# Altium footprint library DCAV32_WINGLET_PCBLIB.PcbLib: 25 footprints (part 1 of 2)
Each footprint in its own frame and in the unit in brackets; x right, y up, seen from the top. Pads: shape width x height; smd on the part's side, far side on the other; paste and mask are expansions set on the pad; w line width, h text height; cw(c..) or ccw(c..) is an arc to the next point about the centre after c.
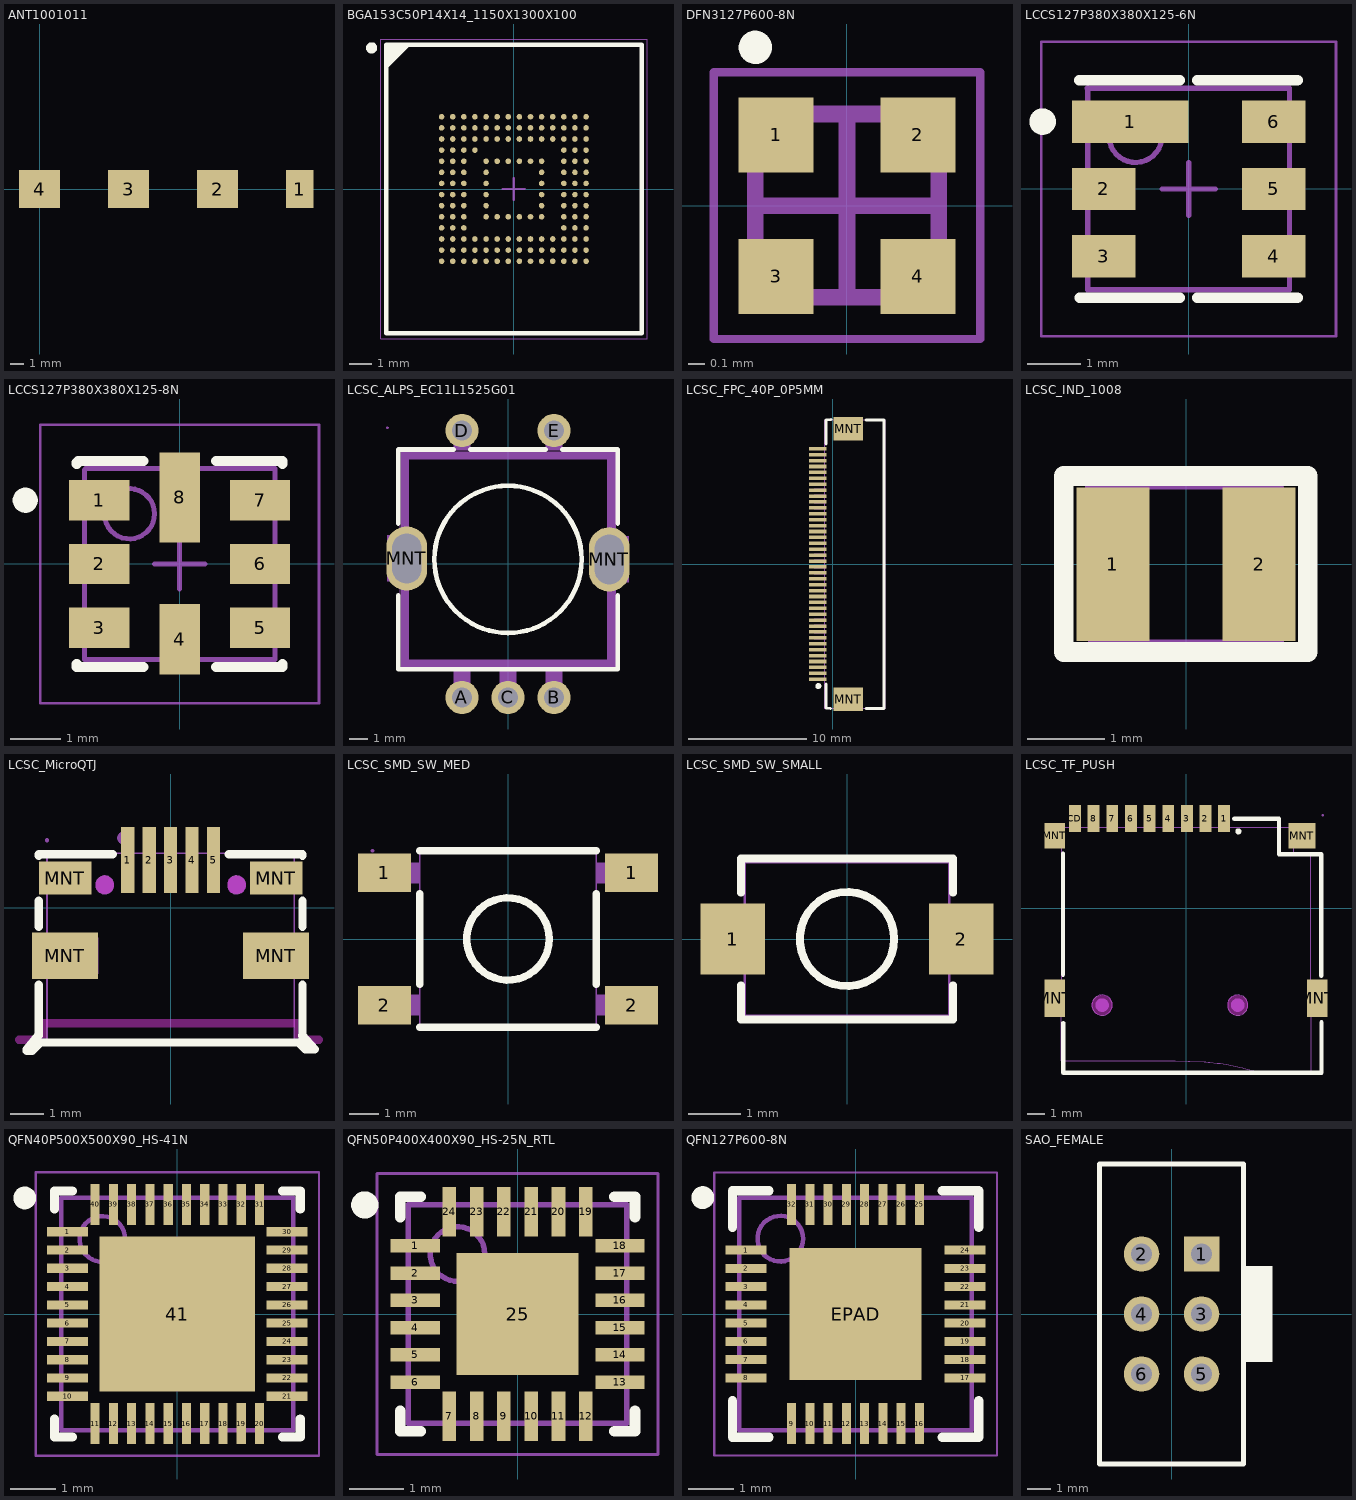
[diagram p0: the footprints below, top view; thin cyan lines are the x and y axes]

## ANT1001011 [mm]
height 3.6
pads (4):
  rect 2x2.8 smd: 1(19,0)
  rect 3x2.8 smd: 2(13,0) 3(6.5,0) 4(0,0)
3D body: height 3.6, standoff 0, extent -1.7,-1.6 20.2,1.6

## BGA153C50P14X14_1150X1300X100 [mm] "BGA, 153-Leads, Body 11.50x13.00mmx1.00mm, Pitch 0.50mm"
height 1
pads (153):
  round 0.25 smd: A1(-3.25,3.25) A2(-2.75,3.25) A3(-2.25,3.25) A4(-1.75,3.25) A5(-1.25,3.25) A6(-0.75,3.25) A7(-0.25,3.25) A8(0.25,3.25) A9(0.75,3.25) A10(1.25,3.25) A11(1.75,3.25) A12(2.25,3.25) A13(2.75,3.25) A14(3.25,3.25) B1(-3.25,2.75) B2(-2.75,2.75) B3(-2.25,2.75) B4(-1.75,2.75) B5(-1.25,2.75) B6(-0.75,2.75) B7(-0.25,2.75) B8(0.25,2.75) B9(0.75,2.75) B10(1.25,2.75) B11(1.75,2.75) B12(2.25,2.75) B13(2.75,2.75) B14(3.25,2.75) C1(-3.25,2.25) C2(-2.75,2.25) C3(-2.25,2.25) C4(-1.75,2.25) C5(-1.25,2.25) C6(-0.75,2.25) C7(-0.25,2.25) C8(0.25,2.25) C9(0.75,2.25) C10(1.25,2.25) C11(1.75,2.25) C12(2.25,2.25) C13(2.75,2.25) C14(3.25,2.25) D1(-3.25,1.75) D2(-2.75,1.75) D3(-2.25,1.75) D4(-1.75,1.75) D12(2.25,1.75) D13(2.75,1.75) D14(3.25,1.75) E1(-3.25,1.25) E2(-2.75,1.25) E3(-2.25,1.25) E5(-1.25,1.25) E6(-0.75,1.25) E7(-0.25,1.25) E8(0.25,1.25) E9(0.75,1.25) E10(1.25,1.25) E12(2.25,1.25) E13(2.75,1.25) E14(3.25,1.25) F1(-3.25,0.75) F2(-2.75,0.75) F3(-2.25,0.75) F5(-1.25,0.75) F10(1.25,0.75) F12(2.25,0.75) F13(2.75,0.75) F14(3.25,0.75) G1(-3.25,0.25) G2(-2.75,0.25) G3(-2.25,0.25) G5(-1.25,0.25) G10(1.25,0.25) G12(2.25,0.25) G13(2.75,0.25) G14(3.25,0.25) H1(-3.25,-0.25) H2(-2.75,-0.25) H3(-2.25,-0.25) H5(-1.25,-0.25) H10(1.25,-0.25) H12(2.25,-0.25) H13(2.75,-0.25) H14(3.25,-0.25) J1(-3.25,-0.75) J2(-2.75,-0.75) J3(-2.25,-0.75) J5(-1.25,-0.75) J10(1.25,-0.75) J12(2.25,-0.75) J13(2.75,-0.75) J14(3.25,-0.75) K1(-3.25,-1.25) K2(-2.75,-1.25) K3(-2.25,-1.25) K5(-1.25,-1.25) K6(-0.75,-1.25) K7(-0.25,-1.25) K8(0.25,-1.25) K9(0.75,-1.25) K10(1.25,-1.25) K12(2.25,-1.25) K13(2.75,-1.25) K14(3.25,-1.25) L1(-3.25,-1.75) L2(-2.75,-1.75) L3(-2.25,-1.75) L12(2.25,-1.75) L13(2.75,-1.75) L14(3.25,-1.75) M1(-3.25,-2.25) M2(-2.75,-2.25) M3(-2.25,-2.25) M4(-1.75,-2.25) M5(-1.25,-2.25) M6(-0.75,-2.25) M7(-0.25,-2.25) M8(0.25,-2.25) M9(0.75,-2.25) M10(1.25,-2.25) M11(1.75,-2.25) M12(2.25,-2.25) M13(2.75,-2.25) M14(3.25,-2.25) N1(-3.25,-2.75) N2(-2.75,-2.75) N3(-2.25,-2.75) N4(-1.75,-2.75) N5(-1.25,-2.75) N6(-0.75,-2.75) N7(-0.25,-2.75) N8(0.25,-2.75) N9(0.75,-2.75) N10(1.25,-2.75) N11(1.75,-2.75) N12(2.25,-2.75) N13(2.75,-2.75) N14(3.25,-2.75) P1(-3.25,-3.25) P2(-2.75,-3.25) P3(-2.25,-3.25) P4(-1.75,-3.25) P5(-1.25,-3.25) P6(-0.75,-3.25) P7(-0.25,-3.25) P8(0.25,-3.25) P9(0.75,-3.25) P10(1.25,-3.25) P11(1.75,-3.25) P12(2.25,-3.25) P13(2.75,-3.25) P14(3.25,-3.25)
Top Overlay:
  circle w0.25: c-6.4,6.35 r0.125
  region: -4.75,6.5 -5.75,5.5 -5.75,6.5
  lines w0.2: -5.75,5.5 -4.75,6.5 ; -5.75,-6.5 5.75,-6.5 5.75,6.5 -5.75,6.5 -5.75,-6.5
Mechanical 13:
  lines w0.1: -5.75,-6.5 5.75,-6.5 5.75,6.5 -5.75,6.5 -5.75,-6.5
Mechanical 15:
  lines w0.05: -6,-6.75 6,-6.75 6,6.75 -6,6.75 -6,-6.75
  lines w0.1: -0.5,0 0.5,0 ; 0,-0.5 0,0.5
3D body "BGA153C50P14X14_1150X1300X100.step": height 1, standoff 0, extent -5.75,-6.5 5.75,6.5

## DFN3127P600-8N [mm] "XLED-1010RGBC"
height 0.8
pads (4):
  rect 0.45x0.45 smd mask+0.051: 1(-0.425,0.425) 2(0.425,0.425) 3(-0.425,-0.425) 4(0.425,-0.425)
Top Overlay:
  circle w0.1: c-0.55,0.95 r0.05
Mechanical 13:
  lines w0.1: -0.55,-0.55 -0.55,0.55 0.55,0.55 0.55,-0.55 -0.55,-0.55
Mechanical 15:
  lines w0.05: -0.8,-0.8 -0.8,0.8 0.8,0.8 0.8,-0.8 -0.8,-0.8
  lines w0.1: -0.5,0 0.5,0 ; 0,-0.5 0,0.5
3D body "DFN3127P600-8N.step": height 0.8, standoff 0, extent -0.55,-0.55 0.55,0.55

## LCCS127P380X380X125-6N [mm] "LCC, 6-Pins, Body 3.80x3.80mmx1.25mm, Pitch 1.27mm, IPC Medium Density"
height 1.25
pads (6):
  rect 2.2x0.8 smd: 1(-1.1,1.27)
  rect 1.2x0.8 smd: 2(-1.6,0) 3(-1.6,-1.27) 4(1.6,-1.27) 5(1.6,0) 6(1.6,1.27)
Top Overlay:
  circle w0.25: c-2.75,1.27 r0.125
  lines w0.2: -2.06,2.05 -0.165,2.05 ; -2.05,-2.05 -0.165,-2.05 ; 0.165,-2.05 2.05,-2.05 ; 0.165,2.05 2.05,2.05
Mechanical 13:
  circle w0.1: c-1,1 r0.5
  lines w0.1: -1.91,1.9 -1.9,1.91 -1.9,-1.9 1.9,-1.9 1.9,1.9 -1.91,1.9
Mechanical 15:
  lines w0.05: -2.775,-2.775 2.775,-2.775 2.775,2.775 -2.775,2.775 -2.775,-2.775
  lines w0.1: -0.5,0 0.5,0 ; 0,-0.5 0,0.5
3D body: height 1.25, standoff 0, extent -1.91,-1.9 1.9,1.91

## LCCS127P380X380X125-8N [mm] "LCC, 8-Pins, Body 3.80x3.80mmx1.25mm, Pitch 1.27mm, IPC Medium Density"
height 1.25
pads (8):
  rect 1.2x0.8 smd: 1(-1.6,1.27) 2(-1.6,0) 3(-1.6,-1.27) 5(1.6,-1.27) 6(1.6,0) 7(1.6,1.27)
  rect 0.8x1.4 smd: 4(0,-1.5)
  rect 0.8x1.8 smd: 8(0,1.325)
Top Overlay:
  circle w0.25: c-3.075,1.27 r0.125
  lines w0.2: -2.05,-1.995 -2.05,-2.05 -0.725,-2.05 ; -2.05,1.995 -2.05,2.023 -2.023,2.05 -0.725,2.05 ; 0.725,-2.05 2.05,-2.05 2.05,-1.995 ; 0.725,2.05 2.05,2.05 2.05,1.995
Mechanical 13:
  circle w0.1: c-1,1 r0.5
  lines w0.1: -1.9,-1.9 1.9,-1.9 1.9,1.9 -1.872,1.9 -1.9,1.872 -1.9,-1.9
Mechanical 15:
  lines w0.05: -2.775,-2.775 2.775,-2.775 2.775,2.775 -2.775,2.775 -2.775,-2.775
  lines w0.1: -0.5,0 0.5,0 ; 0,-0.5 0,0.5
3D body: height 1.25, standoff 0, extent -1.9,-1.9 1.9,1.9

## LCSC_ALPS_EC11L1525G01 [mm] "ALPS_EC11L1525G01"
pads (7):
  round 1.8 hole 1.1 paste-2539.97 mask+0.05: A(-2.5,-7.25) B(2.5,-7.25) C(0,-7.25) D(-2.5,7.25) E(2.5,7.25)
  oval 2.2x3.5 hole 1.6 slot 2.7 at 90 deg paste-2539.97 mask+0.05: MNT(-5.5,0.3) MNT(5.5,0.25)
Top Overlay:
  circle w0.254: c0,0.25 r4
  lines w0.254: -5.969,-1.701 -5.969,-5.719 5.969,-5.719 5.969,-1.701 ; -5.969,2.201 -5.969,6.219 -2.962,6.219 ; -2.039,6.219 2.038,6.219 ; 2.961,6.219 5.969,6.219 5.969,2.201
Mechanical 6:
  region: -5.8,-5.6 -5.8,6.1 -5.4,6.1 -5.4,-5.6
  region: 5.8,-5.6 5.8,6.1 5.4,6.1 5.4,-5.6
  region: 5.4,-5.6 -5.4,-5.6 -5.4,-5.2 5.4,-5.2
  region: -5.4,6.1 5.4,6.1 5.4,5.7 -5.4,5.7
Mechanical 15:
  region: -6.49,7.4 -6.49,7.425 -6.525,7.46 -6.575,7.46 -6.61,7.425 -6.61,7.4 -6.61,7.375 -6.575,7.34 -6.525,7.34 -6.49,7.375
  region: -2.95,7.4 -2.05,7.4 -2.05,7.1 -2.95,7.1
  region: 2.05,7.4 2.95,7.4 2.95,7.1 2.05,7.1
  region: 2.05,-7.1 2.95,-7.1 2.95,-7.4 2.05,-7.4
  region: -0.45,-7.1 0.45,-7.1 0.45,-7.4 -0.45,-7.4
  region: -2.95,-7.1 -2.05,-7.1 -2.05,-7.4 -2.95,-7.4
  region: -2.95,7.4 -2.05,7.4 -2.05,6.21 -2.95,6.21
  region: 2.05,7.4 2.95,7.4 2.95,6.21 2.05,6.21
  region: -2.95,-7.4 -2.05,-7.4 -2.05,-5.77 -2.95,-5.77
  region: -0.45,-7.4 0.45,-7.4 0.45,-5.77 -0.45,-5.77
  region: 2.05,-7.4 2.95,-7.4 2.95,-5.77 2.05,-5.77
  region: 6.05,1.5 6.55,1.5 6.55,-1 6.05,-1
  region: -6.55,1.55 -6.05,1.55 -6.05,-0.95 -6.55,-0.95
  region: -6.55,-0.95 -6.55,1.55 -5.84,1.55 -5.84,-0.95
  region: 6.55,1.5 6.55,-1 5.84,-1 5.84,1.5
  lines w0.051: -5.85,-5.781 -5.85,6.219 5.85,6.219 5.85,-5.781 -5.85,-5.781
3D body "ALPS_EC11L1525G01.step": height 18.09, standoff -3.5, extent -6.549,-7.475 6.549,7.475

## LCSC_FPC_40P_0P5MM [mm] "C2856812"
pads (42):
  rect 1.5x0.3 smd paste+0 mask+0.05: 1(-1.288,-9.75) 2(-1.288,-9.25) 3(-1.288,-8.75) 4(-1.288,-8.25) 5(-1.288,-7.75) 6(-1.288,-7.25) 7(-1.288,-6.75) 8(-1.288,-6.25) 9(-1.288,-5.75) 10(-1.288,-5.25) 11(-1.288,-4.75) 12(-1.288,-4.25) 13(-1.288,-3.75) 14(-1.288,-3.25) 15(-1.288,-2.75) 16(-1.288,-2.25) 17(-1.288,-1.75) 18(-1.288,-1.25) 19(-1.288,-0.75) 20(-1.288,-0.25) 21(-1.288,0.25) 22(-1.288,0.75) 23(-1.288,1.25) 24(-1.288,1.75) 25(-1.288,2.25) 26(-1.288,2.75) 27(-1.288,3.25) 28(-1.288,3.75) 29(-1.288,4.25) 30(-1.288,4.75) 31(-1.288,5.25) 32(-1.288,5.75) 33(-1.288,6.25) 34(-1.288,6.75) 35(-1.288,7.25) 36(-1.288,7.75) 37(-1.288,8.25) 38(-1.288,8.75) 39(-1.288,9.25) 40(-1.288,9.75)
  rect 2.5x2 smd paste+0 mask+0.05: MNT(1.288,-11.44) MNT(1.288,11.44)
Top Overlay:
  circle w0.254: c-1.24,-10.327 r0.127
  lines w0.254: -0.605,10.131 -0.605,12.2 -0.154,12.21 ; -0.589,-10.131 -0.589,-12.2 -0.214,-12.213 ; 2.792,12.173 4.331,12.167 ; 2.794,-12.228 4.331,-12.228 ; 4.324,-12.2 4.324,12.2
Mechanical 15:
  drawing of 46 lines, arcs and shapes, not listed
3D body "FPC_40P.step": height 2.01, standoff 0, extent -1.189,-12.2 4.411,12.2

## LCSC_IND_1008 [mm] "C279796"
pads (2):
  rect 0.95x2 smd paste+0 mask+0.051: 1(-0.95,0) 2(0.95,0)
Top Overlay:
  lines w0.254: -1.59,-1.14 -1.59,1.148 1.58,1.148 1.58,-1.14 -1.59,-1.14
Mechanical 15:
  region: -1.25,0.825 -0.5,0.825 -0.5,-0.825 -1.25,-0.825
  region: 0.5,0.825 1.25,0.825 1.25,-0.825 0.5,-0.825
  region: -1.19,1 -1.191,1.024 -1.226,1.058 -1.274,1.058 -1.309,1.024 -1.31,1 -1.309,0.976 -1.274,0.942 -1.226,0.942 -1.191,0.976
  lines w0.051: -1.25,-1 -1.25,1 1.25,1 1.25,-1 -1.25,-1

## LCSC_MicroQTJ [mm]
pads (9):
  rect 0.4x2 smd paste+0 mask+0.051: 1(-1.3,1.452) 2(-0.65,1.452) 3(0,1.452) 4(0.65,1.452) 5(1.3,1.452)
  rect 2x1.4 smd paste+0 mask+0.051: MNT(-3.2,-1.452) MNT(3.2,-1.452)
  rect 1.6x1 smd paste+0 mask+0.051: MNT(-3.2,0.902) MNT(3.2,0.902)
Top Overlay:
  lines w0.254: -4.011,-3.869 -4.369,-4.288 -4.369,-4.339 -4.204,-4.339 -3.946,-4.081 3.878,-4.081 4.084,-4.288 4.376,-4.288 3.99,-3.869 ; -4,-3.869 -4,-2.398 -4,-2.333 ; -4,-0.571 -4,0.221 ; -4,1.583 -4,1.633 -1.758,1.633 ; 1.758,1.633 4,1.633 4,1.583 ; 4,-3.991 4,-2.398 4,-2.333 ; 4,-0.571 4,0.221
Keep-Out Layer:
  board cut-out: -1.725,0.698 -1.725,0.753 -1.767,0.854 -1.844,0.931 -1.946,0.973 -2.055,0.973 -2.156,0.931 -2.233,0.854 -2.275,0.753 -2.275,0.698 -2.275,0.643 -2.233,0.542 -2.156,0.465 -2.055,0.423 -1.946,0.423 -1.844,0.465 -1.767,0.542 -1.725,0.643
  board cut-out: 2.275,0.698 2.275,0.753 2.233,0.854 2.156,0.931 2.054,0.973 1.945,0.973 1.844,0.931 1.767,0.854 1.725,0.753 1.725,0.698 1.725,0.643 1.767,0.542 1.844,0.465 1.945,0.423 2.054,0.423 2.156,0.465 2.233,0.542 2.275,0.643
Keep-Out Layer:
  lines w0.254: -3.9,-4 -4.6,-4 -3.9,-4 ; -3.9,-4 -3.9,-3.5 ; -3.9,-4 -3.9,-3.5 ; -3.9,-3.5 3.8,-3.5 ; -3.9,-3.5 3.8,-3.5 ; 3.8,-3.5 3.9,-3.5 ; 3.8,-3.5 3.9,-3.5 ; 3.9,-4 3.9,-3.5 ; 3.9,-4 4.5,-4 3.9,-4 ; 3.9,-4 3.9,-3.5
Mechanical 1:
  circle w0.005: c-2,0.698 r0.275
  circle w0.005: c2,0.698 r0.275
Mechanical 6:
  circle w0.2: c-1.421,2.122 r0.1
  circle w0.27: c2,0.698 r0.135
  circle w0.27: c-2,0.698 r0.135
Mechanical 15:
  region: -3.69,2.053 -3.691,2.077 -3.726,2.111 -3.774,2.111 -3.809,2.077 -3.81,2.053 -3.809,2.028 -3.774,1.995 -3.726,1.995 -3.691,2.028
  region: -3.75,1.252 -2.45,1.252 -2.45,0.552 -3.75,0.552
  region: 2.45,1.252 3.75,1.252 3.75,0.552 2.45,0.552
  region: -3.75,-0.902 -2.2,-0.902 -2.2,-2.002 -3.75,-2.002
  region: 2.2,-0.902 3.75,-0.902 3.75,-2.002 2.2,-2.002
  region: -1.425,0.953 -1.425,2.053 -1.175,2.053 -1.175,0.953
  region: -0.775,0.953 -0.775,2.053 -0.525,2.053 -0.525,0.953
  region: -0.125,0.953 -0.125,2.053 0.125,2.053 0.125,0.953
  region: 0.525,0.953 0.525,2.053 0.775,2.053 0.775,0.953
  region: 1.175,0.953 1.175,2.053 1.425,2.053 1.425,0.953
  lines w0.051: -3.75,-4.143 3.75,-4.143 3.75,1.657 -3.75,1.657 -3.75,-4.143
3D body "MICROUSB_MICROQTJ_C404968.step": height 2.85, standoff -0.5, extent -4.001,-4.137 4.001,1.938

## LCSC_SMD_SW_MED [mm] "C5127964"
pads (4):
  rect 1.8x1.3 smd paste+0 mask+0.051: 1(-4.2,2.25) 1(4.2,2.25) 2(-4.2,-2.25) 2(4.2,-2.25)
Top Overlay:
  circle w0.254: c0,0 r1.4
  lines w0.254: -3,-3 3,-3 ; -3,-1.542 -3,1.542 ; -3,3 3,3 ; 3,-1.542 3,1.542
Mechanical 15:
  region: -4.54,3 -4.541,3.024 -4.576,3.058 -4.624,3.058 -4.659,3.024 -4.66,3 -4.659,2.976 -4.624,2.942 -4.576,2.942 -4.541,2.976
  region: -4.11,1.9 -4.11,2.6 -2.99,2.6 -2.99,1.9
  region: -4.6,1.9 -4.6,2.6 -4.1,2.6 -4.1,1.9
  region: -4.11,-2.6 -4.11,-1.9 -2.99,-1.9 -2.99,-2.6
  region: -4.6,-2.6 -4.6,-1.9 -4.1,-1.9 -4.1,-2.6
  region: 2.99,-2.6 2.99,-1.9 4.11,-1.9 4.11,-2.6
  region: 4.1,-2.6 4.1,-1.9 4.6,-1.9 4.6,-2.6
  region: 2.99,1.9 2.99,2.6 4.11,2.6 4.11,1.9
  region: 4.1,1.9 4.1,2.6 4.6,2.6 4.6,1.9
  lines w0.051: -3,-3 3,-3 3,3 -3,3 -3,-3
3D body "SW_SMD_MED.step": height 6.5, standoff 0, extent -4.5,-3 4.5,3

## LCSC_SMD_SW_SMALL [mm] "C843669"
pads (2):
  rect 1.23x1.36 smd: 1(-2.185,0) 2(2.185,0)
Top Overlay:
  circle w0.152: c0,0 r0.9
  lines w0.152: -2.026,-0.883 -2.026,-1.541 2.026,-1.541 2.026,-0.883 ; -2.026,0.883 -2.026,1.541 2.026,1.541 2.026,0.883
Mechanical 15:
  region: 2.5,0.65 2.5,-0.65 1.6,-0.65 1.6,0.65
  region: -2.5,0.65 -2.5,-0.65 -1.6,-0.65 -1.6,0.65
  lines w0.051: -1.95,-1.465 1.95,-1.465 1.95,1.465 -1.95,1.465 -1.95,-1.465
3D body "SW_SMD_SMALL.step": height 1.95, standoff 0, extent -2.4,-1.45 2.4,1.45

## LCSC_TF_PUSH [mm] "C393941"
pads (13):
  rect 0.7x1.6 smd paste+0 mask+0.051: 1(2.25,5.3) 2(1.15,5.3) 3(0.05,5.3) 4(-1.05,5.3) 5(-2.15,5.3) 6(-3.25,5.3) 7(-4.35,5.3) 8(-5.45,5.3) CD(-6.55,5.3)
  rect 1.2x2.2 smd paste+0 mask+0.051: MNT(-7.75,-5.3) MNT(7.75,-5.3)
  rect 1.2x1.5 smd paste+0 mask+0.051: MNT(-7.75,4.3)
  rect 1.6x1.5 smd paste+0 mask+0.051: MNT(6.85,4.3)
Top Overlay:
  circle w0.254: c3.087,4.552 r0.052
  lines w0.254: -7.26,-3.91 -7.26,3.25 ; -7.24,-6.76 -7.24,-9.7 8,-9.7 8,-6.71 ; 2.85,5.3 4.702,5.3 5.489,5.3 5.489,3.199 5.5,3.2 ; 5.49,3.2 7.98,3.2 7.98,-3.969
Keep-Out Layer:
  board cut-out: 3.65,-5.7 3.649,-5.581 3.557,-5.363 3.388,-5.196 3.169,-5.106 2.931,-5.106 2.712,-5.196 2.543,-5.363 2.451,-5.581 2.45,-5.7 2.451,-5.819 2.543,-6.037 2.712,-6.204 2.931,-6.294 3.169,-6.294 3.388,-6.204 3.557,-6.037 3.649,-5.819
  board cut-out: -4.35,-5.7 -4.351,-5.581 -4.443,-5.363 -4.612,-5.196 -4.831,-5.106 -5.069,-5.106 -5.288,-5.196 -5.457,-5.363 -5.549,-5.581 -5.55,-5.7 -5.549,-5.819 -5.457,-6.037 -5.288,-6.204 -5.069,-6.294 -4.831,-6.294 -4.612,-6.204 -4.443,-6.037 -4.351,-5.819
Mechanical 1:
  circle w0.005: c3.05,-5.7 r0.6
  circle w0.005: c-4.95,-5.7 r0.6
Mechanical 6:
  circle w0.4: c-4.95,-5.7 r0.2
  circle w0.4: c3.05,-5.7 r0.2
Mechanical 15:
  region: 8.069,-6.092 8.068,-4.492 7.369,-4.492 7.369,-6.091 7.429,-6.091
  region: -7.369,-6.094 -7.37,-4.494 -8.069,-4.494 -8.069,-6.094 -8.009,-6.094
  region: 6.481,3.805 7.181,3.805 7.181,4.805 6.494,4.805 6.469,4.806 6.472,4.752 6.473,4.671 6.474,4.498
  region: -7.37,3.806 -8.069,3.806 -8.07,4.806 -7.383,4.806 -7.382,4.805 -7.384,4.498
  region: 2.1,5.505 2.4,5.505 2.4,4.805 2.1,4.805
  region: 1,5.505 1.3,5.505 1.3,4.805 1,4.805
  region: -0.1,5.505 0.2,5.505 0.2,4.805 -0.1,4.805
  region: -1.2,5.505 -0.9,5.505 -0.9,4.805 -1.2,4.805
  region: -2.3,5.505 -2,5.505 -2,4.805 -2.3,4.805
  region: -3.4,5.505 -3.1,5.505 -3.1,4.805 -3.4,4.805
  region: -4.5,5.505 -4.2,5.505 -4.2,4.805 -4.5,4.805
  region: -5.6,5.505 -5.3,5.505 -5.3,4.805 -5.6,4.805
  region: -6.7,5.505 -6.4,5.505 -6.4,4.805 -6.7,4.805
  region: 8.13,5.505 8.13,5.53 8.095,5.565 8.045,5.565 8.01,5.53 8.01,5.505 8.01,5.48 8.045,5.445 8.095,5.445 8.13,5.48
  lines w0.051: -8.07,4.806 7.181,4.806 ; -8.07,4.806 -8.07,4.806 ; -8.07,4.806 -8.07,3.806 -7.37,3.806 -7.37,-4.494 -8.07,-4.494 -8.07,-6.094 -7.37,-6.094 -7.37,-8.994 -6.352,-8.995 -2.476,-8.986 -1.695,-8.99 -0.648,-8.989 0.138,-8.999 0.232,-9.003 1.09,-9.042 1.163,-9.05 1.308,-9.069 1.414,-9.075 1.841,-9.121 2.012,-9.136 2.38,-9.204 3.048,-9.34 3.176,-9.371 3.348,-9.403 3.411,-9.421 3.876,-9.552 4.14,-9.628 4.388,-9.695 4.389,-9.694 7.379,-9.694 7.38,-9.693 7.38,-6.094 8.07,-6.094 ; 7.181,4.806 7.181,3.806 7.181,3.806 6.33,3.806 6.33,3.306 7.229,3.306 7.229,3.206 7.37,3.206 7.37,-4.494 7.37,-4.494 8.069,-4.494 8.07,-4.495 8.07,-6.094 ; 7.181,4.806 7.181,4.806 ; 8.07,-6.094 8.07,-6.094
3D body "TF_PUSH.step": height 2.05, standoff -0.6, extent -8.075,-9.694 8.075,5.506

## QFN40P500X500X90_HS-41N [mm] "QFN, 40-Leads, Body 5.00x5.00mm, Pitch 0.40mm, Thermal Pad 3.40x3.40mm, IPC Medium Density"
height 0.9
pads (41):
  rect 0.9x0.2 smd: 1(-2.4,1.8) 2(-2.4,1.4) 3(-2.4,1) 4(-2.4,0.6) 5(-2.4,0.2) 6(-2.4,-0.2) 7(-2.4,-0.6) 8(-2.4,-1) 9(-2.4,-1.4) 10(-2.4,-1.8) 21(2.4,-1.8) 22(2.4,-1.4) 23(2.4,-1) 24(2.4,-0.6) 25(2.4,-0.2) 26(2.4,0.2) 27(2.4,0.6) 28(2.4,1) 29(2.4,1.4) 30(2.4,1.8)
  rect 0.2x0.9 smd: 11(-1.8,-2.4) 12(-1.4,-2.4) 13(-1,-2.4) 14(-0.6,-2.4) 15(-0.2,-2.4) 16(0.2,-2.4) 17(0.6,-2.4) 18(1,-2.4) 19(1.4,-2.4) 20(1.8,-2.4) 31(1.8,2.4) 32(1.4,2.4) 33(1,2.4) 34(0.6,2.4) 35(0.2,2.4) 36(-0.2,2.4) 37(-0.6,2.4) 38(-1,2.4) 39(-1.4,2.4) 40(-1.8,2.4)
  rect 3.4x3.4 smd: 41(0,0)
Top Overlay:
  circle w0.25: c-3.34,2.54 r0.125
  lines w0.2: -2.69,-2.3 -2.69,-2.69 -2.3,-2.69 ; -2.69,2.3 -2.69,2.69 -2.3,2.69 ; 2.3,-2.69 2.69,-2.69 2.69,-2.3 ; 2.3,2.69 2.69,2.69 2.69,2.3
Mechanical 13:
  circle w0.1: c-1.64,1.64 r0.5
  lines w0.1: -2.54,-2.54 -2.54,2.54 2.54,2.54 2.54,-2.54 -2.54,-2.54
Mechanical 15:
  lines w0.05: -3.1,-3.1 -3.1,3.1 3.1,3.1 3.1,-3.1 -3.1,-3.1
  lines w0.1: -0.5,0 0.5,0 ; 0,-0.5 0,0.5
3D body "QFN40P500X500X90_HS-41N.step": height 0.9, standoff 0, extent -2.55,-2.55 2.55,2.55

## QFN50P400X400X90_HS-25N_RTL [mm] "QFN, 24-Leads, Body 4.00x4.00mm, Pitch 0.50mm, Thermal Pad 2.23x2.23mm, IPC Medium Density, Realtek"
height 0.9
pads (25):
  rect 0.9x0.25 smd: 1(-1.875,1.25) 2(-1.875,0.75) 3(-1.875,0.25) 4(-1.875,-0.25) 5(-1.875,-0.75) 6(-1.875,-1.25) 13(1.875,-1.25) 14(1.875,-0.75) 15(1.875,-0.25) 16(1.875,0.25) 17(1.875,0.75) 18(1.875,1.25)
  rect 0.25x0.9 smd: 7(-1.25,-1.875) 8(-0.75,-1.875) 9(-0.25,-1.875) 10(0.25,-1.875) 11(0.75,-1.875) 12(1.25,-1.875) 19(1.25,1.875) 20(0.75,1.875) 21(0.25,1.875) 22(-0.25,1.875) 23(-0.75,1.875) 24(-1.25,1.875)
  rect 2.23x2.23 smd: 25(0,0)
Top Overlay:
  circle w0.25: c-2.8,2 r0.125
  lines w0.2: -2.15,-1.775 -2.15,-2.15 -1.775,-2.15 ; -2.15,1.775 -2.15,2.15 -1.775,2.15 ; 1.775,-2.15 2.15,-2.15 2.15,-1.775 ; 1.775,2.15 2.15,2.15 2.15,1.775
Mechanical 13:
  circle w0.1: c-1.1,1.1 r0.5
  lines w0.1: -2,-2 2,-2 2,2 -2,2 -2,-2
Mechanical 15:
  lines w0.05: -2.575,-2.575 2.575,-2.575 2.575,2.575 -2.575,2.575 -2.575,-2.575
  lines w0.1: -0.5,0 0.5,0 ; 0,-0.5 0,0.5
3D body "QFN50P400X400X90_HS-25N_RTL.step": height 0.9, standoff 0, extent -2.01,-2.01 2.01,2.01

## QFN127P600-8N [mm] "QFN32_0P4_XPOWERS"
height 0.8
pads (33):
  rect 0.9x0.2 smd: 1(-2.4,1.4) 2(-2.4,1) 3(-2.4,0.6) 4(-2.4,0.2) 5(-2.4,-0.2) 6(-2.4,-0.6) 7(-2.4,-1) 8(-2.4,-1.4) 17(2.4,-1.4) 18(2.4,-1) 19(2.4,-0.6) 20(2.4,-0.2) 21(2.4,0.2) 22(2.4,0.6) 23(2.4,1) 24(2.4,1.4)
  rect 0.2x0.9 smd: 9(-1.4,-2.4) 10(-1,-2.4) 11(-0.6,-2.4) 12(-0.2,-2.4) 13(0.2,-2.4) 14(0.6,-2.4) 15(1,-2.4) 16(1.4,-2.4) 25(1.4,2.4) 26(1,2.4) 27(0.6,2.4) 28(0.2,2.4) 29(-0.2,2.4) 30(-0.6,2.4) 31(-1,2.4) 32(-1.4,2.4)
  rect 2.9x2.9 smd: EPAD(0,0)
Top Overlay:
  circle w0.25: c-3.35,2.55 r0.125
  lines w0.2: -2.7,-1.9 -2.7,-2.7 -1.9,-2.7 ; -2.7,1.9 -2.7,2.7 -1.9,2.7 ; 1.9,-2.7 2.7,-2.7 2.7,-1.9 ; 1.9,2.7 2.7,2.7 2.7,1.9
Mechanical 13:
  circle w0.1: c-1.65,1.65 r0.5
  lines w0.1: -2.55,-2.55 -2.55,2.55 2.55,2.55 2.55,-2.55 -2.55,-2.55
Mechanical 15:
  lines w0.05: -3.1,-3.1 -3.1,3.1 3.1,3.1 3.1,-3.1 -3.1,-3.1
  lines w0.1: -0.5,0 0.5,0 ; 0,-0.5 0,0.5
3D body "QFN127P600-8N.step": height 0.8, standoff 0, extent -2.57,-2.57 2.57,2.57

## SAO_FEMALE [mm] "OG Sullins SFH11-NBPC-D03-ST-BK"
pads (6):
  rect 1.5x1.5 hole 0.9: 1(1.27,2.54)
  round 1.5 hole 0.9: 2(-1.27,2.54) 3(1.27,0) 4(-1.27,0) 5(1.27,-2.54) 6(-1.27,-2.54)
Top Overlay:
  rectangle: 3.048,-2.032 4.267,2.032
  lines w0.2: -3.048,-6.35 -3.048,6.35 3.048,6.35 3.048,-6.35 -3.048,-6.35
3D body "SFH11-xxPC-D03-ST-BK.STEP": height 8.52, standoff -3.18, extent -3,-6.27 4.1,6.27